# EAGLE library part PCM5141 (library AudioStream)
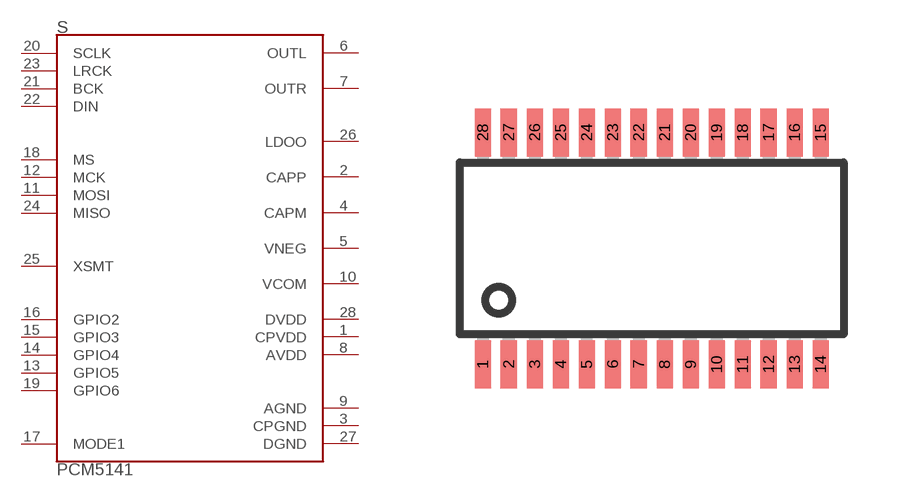
[diagram p2: symbol with the pads of PW_R-PDSO-G28; footprint PW_R-PDSO-G28]

Designator prefix S

## PCM5141  [PW_R-PDSO-G28]
1  CPVDD  sup
2  CAPP  pas
3  CPGND  sup
4  CAPM  pas
5  VNEG  pas
6  OUTL  out
7  OUTR  out
8  AVDD  sup
9  AGND  sup
10  VCOM  pas
11  MOSI  in
12  MCK  in
13  GPIO5
14  GPIO4
15  GPIO3
16  GPIO2
17  MODE1  in
18  MS  in
19  GPIO6
20  SCLK  in
21  BCK  in
22  DIN  in
23  LRCK  in
24  MISO  out
25  XSMT  in
26  LDOO  pas
27  DGND  sup
28  DVDD  sup

## Footprint PW_R-PDSO-G28 (pad centres in mm)
PLASTIC SMALL-OUTLINE PACKAGE SO 28 JEDEC MO-153, PW Type Source: www.ti.com/.. slvs087l.pdf
smd 0.4 x 1.2: 1 -4.225,-2.9; 2 -3.575,-2.9; 3 -2.925,-2.9; 4 -2.275,-2.9; 5 -1.625,-2.9; 6 -0.975,-2.9; 7 -0.325,-2.9; 8 0.325,-2.9; 9 0.975,-2.9; 10 1.625,-2.9; 11 2.275,-2.9; 12 2.925,-2.9; 13 3.575,-2.9; 14 4.225,-2.9; 15 4.225,2.9; 16 3.575,2.9; 17 2.925,2.9; 18 2.275,2.9; 19 1.625,2.9; 20 0.975,2.9; 21 0.325,2.9; 22 -0.325,2.9; 23 -0.975,2.9; 24 -1.625,2.9; 25 -2.275,2.9; 26 -2.925,2.9; 27 -3.575,2.9; 28 -4.225,2.9